# Altium footprint library oled_model.PcbLib: 2 footprints
Each footprint in its own frame and in the unit in brackets; x right, y up, seen from the top. Pads: shape width x height; smd on the part's side, far side on the other; paste and mask are expansions set on the pad; w line width, h text height; cw(c..) or ccw(c..) is an arc to the next point about the centre after c.
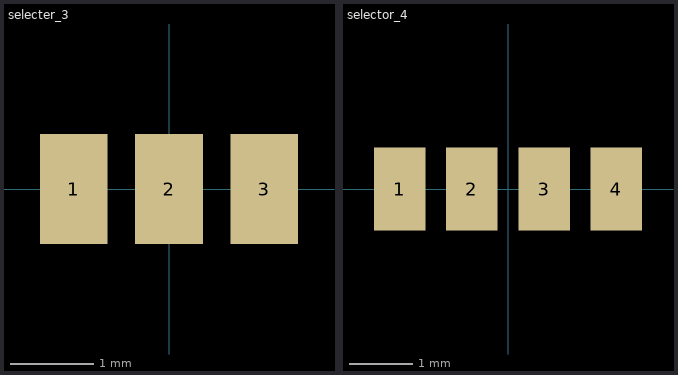
[diagram p0: the footprints below, top view; thin cyan lines are the x and y axes]

## selecter_3 [mil]
pads (3):
  rect 32x52 smd: 1(-45,0) 2(0,0) 3(45,0)

## selector_4 [mil]
pads (4):
  rect 32x52 smd: 1(-67.5,0) 2(-22.5,0) 3(22.5,0) 4(67.5,0)